# EAGLE library part BD9555FVM-C (library parts)
ROHM timer IC
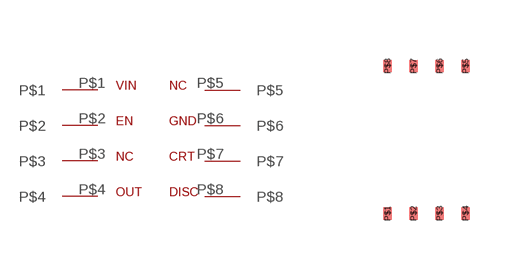
[diagram p1: symbol with the pads of MSOP8; footprint MSOP8]

Designator prefix -

## BD9555FVM-C  [MSOP8]
P$1  P$1
P$2  P$2
P$3  P$3
P$4  P$4
P$5  P$5
P$6  P$6
P$7  P$7
P$8  P$8

## Footprint MSOP8 (pad centres in mm)
smd 0.22 x 0.31: P$1 -0.975,-1.845; P$2 -0.325,-1.845; P$3 0.325,-1.845; P$4 0.975,-1.845; P$5 0.975,1.845; P$6 0.325,1.845; P$7 -0.325,1.845; P$8 -0.975,1.845